# Altium schematic symbol library Inductor.SchLib: 1 symbol
Pins are listed as number, name and electrical type; pins without a type are passive.

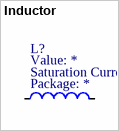
[diagram p0: symbol Inductor]

## Inductor
designator L?
Inductor, Power, ???uH, ???A, ?x?x?mm; ComponentLink1Description: Datasheet; ComponentLink1URL: *; ComponentLink2Description: Supplier Link; ComponentLink2URL: *; Manufacturer Part Number: *; Supplier: *; Supplier Part Number: *; Manufacturer: *; Operating Temperature, Min: *℃; Operating Temperature, Max: *℃; Quantity, Min: *; Quantity, Max: *; Price, Min: *; Price, Max: *; Supplier Currency: *; Supplier Link: *; Component Type: Power Inductor; Component Category: Inductor; Saturation Current: *; Value: *; Package: *
footprint Taiyo Yuden - Power Inductor, 4040TK
footprint Taiyo Yuden - Power Inductor, 5050WK
pins: 1, 2